# Altium schematic symbol library MP2393GTL-Z.SchLib: 1 symbol
Pins are listed as number, name and electrical type; pins without a type are passive.

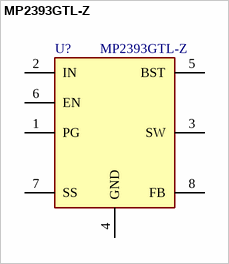
[diagram p0: symbol MP2393GTL-Z]

## MP2393GTL-Z
designator U?
IC - Regulator, Switching, 3A, 4.2V to 24V In, 0.8V to 13V Out, SOT-583; Temp Range: -40°C ~ 125°C (TA); MF Part No.: MP2393GTL-Z; Package: SOT-583; Supplier 1: Digikey; Supplier 1 Part No.: 1589-MP2393GTL-ZCT-ND; Rated Voltage: 24V
footprint SOT-583-2.1mmx1.6mmBody-0.6mm (SOT-583, 8 pins, 2.1 x 1.6mm body, nominal pads, 0.6mm high)
pins: 1 PG (power), 2 IN (power), 3 SW, 4 GND, 5 BST (power), 6 EN, 7 SS, 8 FB (power)